# Altium footprint library Socket Headers.pcblib: 9 footprints
Each footprint in its own frame and in the unit in brackets; x right, y up, seen from the top. Pads: shape width x height; smd on the part's side, far side on the other; paste and mask are expansions set on the pad; w line width, h text height; cw(c..) or ccw(c..) is an arc to the next point about the centre after c.
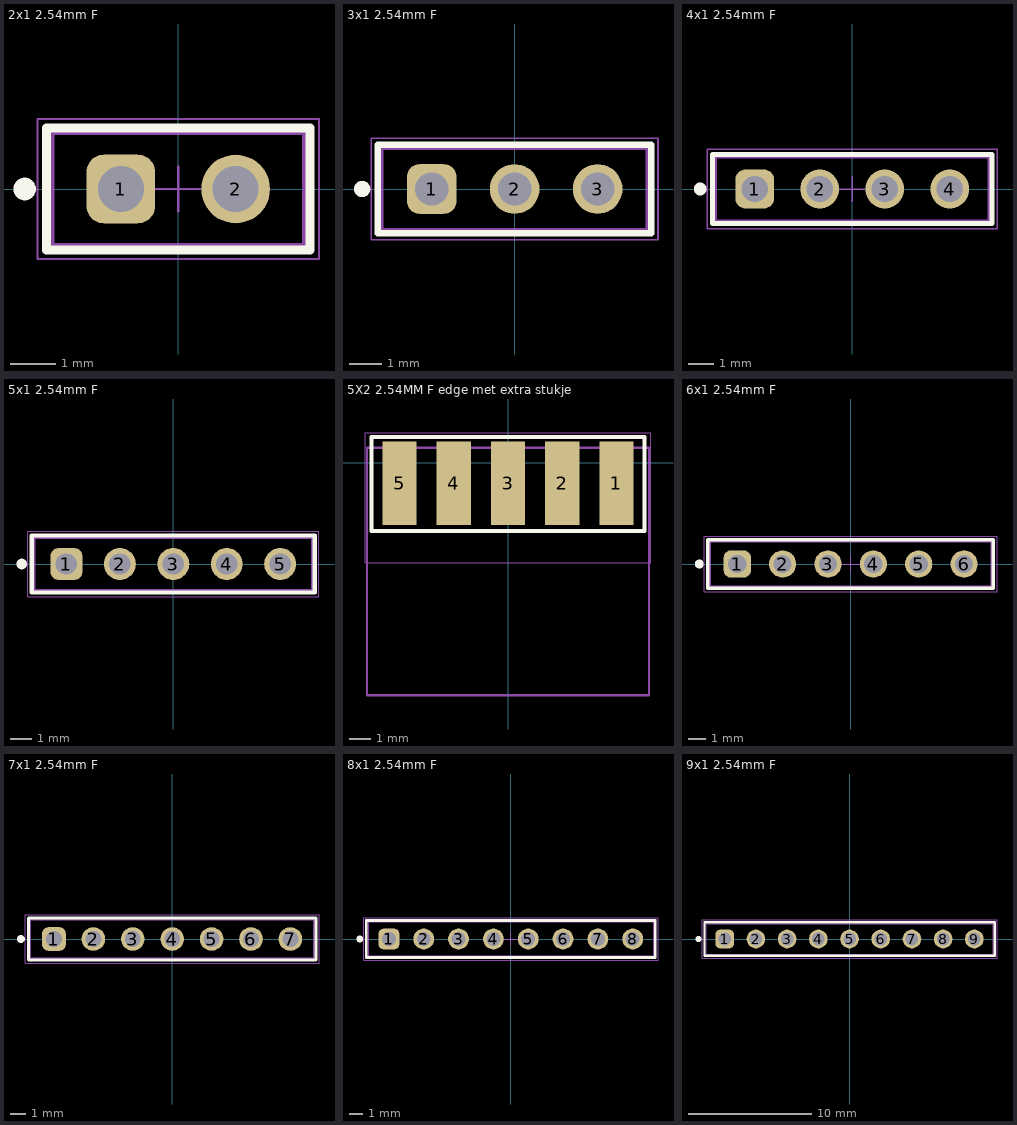
[diagram p0: the footprints below, top view; thin cyan lines are the x and y axes]

## 2x1 2.54mm F [mm] "Socket Header, Pitch 2.54 mm, THT, Vertical, single row, 2p"
height 8.5
pads (2):
  rrect50% 1.52x1.52 hole 1.02: 1(-1.27,0)
  round 1.52 hole 1.02: 2(1.27,0)
Top Overlay:
  circle w0.25: c-3.4,0 r0.125
  lines w0.2: -2.915,-1.35 -2.915,1.35 2.915,1.35 2.915,-1.35 -2.915,-1.35
Top Designator:
  text ".Designator" at -7.498,-0.5 h1.5
Top Component Outline:
  lines w0.1: -2.79,-1.25 -2.79,1.25 2.79,1.25 2.79,-1.25 -2.79,-1.25
Top Courtyard:
  lines w0.05: -3.115,-1.55 -3.115,1.55 3.115,1.55 3.115,-1.55 -3.115,-1.55
Top Component Center:
  lines w0.05: -0.5,0 0.5,0 ; 0,-0.5 0,0.5
3D body "61300211821.stp": height 8.55, standoff -3.06, extent -2.79,-1.25 2.79,1.25

## 3x1 2.54mm F [mm] "Socket Header, Pitch 2.54 mm, THT, Vertical, single row, 3p"
height 8.5
pads (3):
  rrect50% 1.52x1.52 hole 1.02: 1(-2.54,0)
  round 1.52 hole 1.02: 2(0,0) 3(2.54,0)
Top Overlay:
  circle w0.25: c-4.67,0 r0.125
  lines w0.2: -4.185,-1.35 -4.185,1.35 4.185,1.35 4.185,-1.35 -4.185,-1.35
Top Designator:
  text ".Designator" at -7.498,-0.5 h1.5
Top Component Outline:
  lines w0.1: -4.06,-1.25 -4.06,1.25 4.06,1.25 4.06,-1.25 -4.06,-1.25
Top Courtyard:
  lines w0.05: -4.385,-1.55 -4.385,1.55 4.385,1.55 4.385,-1.55 -4.385,-1.55
Top Component Center:
  lines w0.05: -0.5,0 0.5,0 ; 0,-0.5 0,0.5
3D body "61300311821.stp": height 8.55, standoff -3.06, extent -4.06,-1.25 4.06,1.25

## 4x1 2.54mm F [mm] "Socket Header, Pitch 2.54 mm, THT, Vertical, single row, 4p"
height 8.5
pads (4):
  rrect50% 1.52x1.52 hole 1.02: 1(-3.81,0)
  round 1.52 hole 1.02: 2(-1.27,0) 3(1.27,0) 4(3.81,0)
Top Overlay:
  circle w0.25: c-5.94,0 r0.125
  lines w0.2: -5.455,-1.35 5.455,-1.35 5.455,1.35 -5.455,1.35 -5.455,-1.35
Top Designator:
  text ".Designator" at -7.498,-0.5 h1.5
Top Component Outline:
  lines w0.1: -5.33,-1.25 5.33,-1.25 5.33,1.25 -5.33,1.25 -5.33,-1.25
Top Courtyard:
  lines w0.05: -5.655,-1.55 5.655,-1.55 5.655,1.55 -5.655,1.55 -5.655,-1.55
Top Component Center:
  lines w0.05: -0.5,0 0.5,0 ; 0,-0.5 0,0.5
3D body "61300411821.stp": height 8.55, standoff -3.05, extent -5.33,-1.25 5.33,1.25

## 5x1 2.54mm F [mm] "Socket Header, Pitch 2.54 mm, THT, Vertical, single row, 5p"
height 8.5
pads (5):
  rrect50% 1.52x1.52 hole 1.02: 1(-5.08,0)
  round 1.52 hole 1.02: 2(-2.54,0) 3(0,0) 4(2.54,0) 5(5.08,0)
Top Overlay:
  circle w0.25: c-7.21,0 r0.125
  lines w0.2: -6.725,-1.35 6.725,-1.35 6.725,1.35 -6.725,1.35 -6.725,-1.35
Top Designator:
  text ".Designator" at -7.498,-0.5 h1.5
Top Component Outline:
  lines w0.1: -6.6,-1.25 6.6,-1.25 6.6,1.25 -6.6,1.25 -6.6,-1.25
Top Courtyard:
  lines w0.05: -6.925,-1.55 6.925,-1.55 6.925,1.55 -6.925,1.55 -6.925,-1.55
Top Component Center:
  lines w0.05: -0.5,0 0.5,0 ; 0,-0.5 0,0.5
3D body "61300511821.stp": height 8.55, standoff -3.06, extent -6.6,-1.25 6.6,1.25

## 5X2 2.54MM F edge met extra stukje [mm] "10 pins, straight, gold plating"
height 9.1
pads (5):
  rect 1.6x3.9 all layers, no hole: 1(5.08,-0.97) 2(2.54,-0.97) 3(0,-0.97) 4(-2.54,-0.97) 5(-5.08,-0.97)
Top Overlay:
  lines w0.2: -6.4,-3.2 6.4,-3.2 6.4,1.2 -6.4,1.2 -6.4,-3.2
Top 3D Body:
  lines w0.1: -6.6,-10.9 -6.6,0.7 6.6,0.7 6.6,-10.9 -6.6,-10.9
Top Designator:
  text ".Designator" at -3.647,-0.357 h1
Top Assembly:
  lines w0.1: -6.6,-10.9 6.6,-10.9 6.6,0.7 -6.6,0.7 -6.6,-10.9
Top Courtyard:
  lines w0.05: -6.7,-4.7 6.7,-4.7 6.7,1.4 -6.7,1.4 -6.7,-4.7
Top Component Center:
  lines w0.1: -0.5,0 0.5,0 ; 0,-0.5 0,0.5
3D body "61301021821 (rev1) edit met stukje.step": height 2.79, standoff -3.29, extent -6.6,-10.85 6.6,0.75

## 6x1 2.54mm F [mm] "Socket Header, Pitch 2.54 mm, THT, Vertical, single row, 6p"
height 8.5
pads (6):
  rrect50% 1.52x1.52 hole 1.02: 1(-6.35,0)
  round 1.52 hole 1.02: 2(-3.81,0) 3(-1.27,0) 4(1.27,0) 5(3.81,0) 6(6.35,0)
Top Overlay:
  circle w0.25: c-8.48,0 r0.125
  lines w0.2: -7.995,-1.35 7.995,-1.35 7.995,1.35 -7.995,1.35 -7.995,-1.35
Top Designator:
  text ".Designator" at -7.498,-0.5 h1.5
Top Component Outline:
  lines w0.1: -7.87,-1.25 7.87,-1.25 7.87,1.25 -7.87,1.25 -7.87,-1.25
Top Courtyard:
  lines w0.05: -8.195,-1.55 8.195,-1.55 8.195,1.55 -8.195,1.55 -8.195,-1.55
Top Component Center:
  lines w0.05: -0.5,0 0.5,0 ; 0,-0.5 0,0.5
3D body "61300611821.stp": height 8.55, standoff -3.06, extent -7.87,-1.25 7.87,1.25

## 7x1 2.54mm F [mm] "Socket Header, Pitch 2.54 mm, THT, Vertical, single row, 7p"
height 8.5
pads (7):
  rrect50% 1.52x1.52 hole 1.02: 1(-7.62,0)
  round 1.52 hole 1.02: 2(-5.08,0) 3(-2.54,0) 4(0,0) 5(2.54,0) 6(5.08,0) 7(7.62,0)
Top Overlay:
  circle w0.25: c-9.75,0 r0.125
  lines w0.2: -9.265,-1.35 9.265,-1.35 9.265,1.35 -9.265,1.35 -9.265,-1.35
Top Designator:
  text ".Designator" at -7.498,-0.5 h1.5
Top Component Outline:
  lines w0.1: -9.14,-1.25 9.14,-1.25 9.14,1.25 -9.14,1.25 -9.14,-1.25
Top Courtyard:
  lines w0.05: -9.465,-1.55 9.465,-1.55 9.465,1.55 -9.465,1.55 -9.465,-1.55
Top Component Center:
  lines w0.05: -0.5,0 0.5,0 ; 0,-0.5 0,0.5
3D body "61300711821.stp": height 8.55, standoff -3.06, extent -9.14,-1.25 9.14,1.25

## 8x1 2.54mm F [mm] "Socket Header, Pitch 2.54 mm, THT, Vertical, single row, 8p"
height 8.5
pads (8):
  rrect50% 1.52x1.52 hole 1.02: 1(-8.89,0)
  round 1.52 hole 1.02: 2(-6.35,0) 3(-3.81,0) 4(-1.27,0) 5(1.27,0) 6(3.81,0) 7(6.35,0) 8(8.89,0)
Top Overlay:
  circle w0.25: c-11.02,0 r0.125
  lines w0.2: -10.535,-1.35 -10.535,1.35 10.535,1.35 10.535,-1.35 -10.535,-1.35
Top Designator:
  text ".Designator" at -7.498,-0.5 h1.5
Top Component Outline:
  lines w0.1: -10.41,-1.25 -10.41,1.25 10.41,1.25 10.41,-1.25 -10.41,-1.25
Top Courtyard:
  lines w0.05: -10.735,-1.55 -10.735,1.55 10.735,1.55 10.735,-1.55 -10.735,-1.55
Top Component Center:
  lines w0.05: -0.5,0 0.5,0 ; 0,-0.5 0,0.5
3D body "61300811821.stp": height 8.55, standoff -3.06, extent -10.41,-1.25 10.41,1.25

## 9x1 2.54mm F [mm] "Socket Header, Pitch 2.54 mm, THT, Vertical, single row, 9p"
height 8.5
pads (9):
  rrect50% 1.52x1.52 hole 1.02: 1(-10.16,0)
  round 1.52 hole 1.02: 2(-7.62,0) 3(-5.08,0) 4(-2.54,0) 5(0,0) 6(2.54,0) 7(5.08,0) 8(7.62,0) 9(10.16,0)
Top Overlay:
  circle w0.25: c-12.29,0 r0.125
  lines w0.2: -11.805,-1.35 -11.805,1.35 11.805,1.35 11.805,-1.35 -11.805,-1.35
Top Designator:
  text ".Designator" at -7.498,-0.5 h1.5
Top Component Outline:
  lines w0.1: -11.68,-1.25 -11.68,1.25 11.68,1.25 11.68,-1.25 -11.68,-1.25
Top Courtyard:
  lines w0.05: -12.005,-1.55 -12.005,1.55 12.005,1.55 12.005,-1.55 -12.005,-1.55
Top Component Center:
  lines w0.05: -0.5,0 0.5,0 ; 0,-0.5 0,0.5
3D body "61300911821.stp": height 8.55, standoff -3.06, extent -11.68,-1.25 11.68,1.25